# Altium integrated library BB Voltage Controlled Oscillator.IntLib: 1 symbol
Pins are listed as number, name and electrical type; pins without a type are passive.

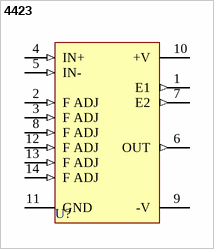
[diagram p0: symbol 4423]

## 4423
designator U?
Precision Quadrature Oscillator; Published: 8-Jun-2000; LatestRevisionDate: 17-Jul-2002; LatestRevisionNote: Re-released for DXP Platform.; DatasheetVersion: 1989; PackageVersion: 1995; PackageReference: ZZ105; Publisher: Altium Limited; PackageDescription: DIP; 14 Round Pins; Row Space 7.62 mm; Pitch 2.54 mm; ComponentLink1Description: Manufacturer Link; ComponentLink1URL: http://www.ti.com/
footprint ZZ105 (DIP; 14 Round Pins; Row Space 7.62 mm; Pitch 2.54 mm)
pins: 1 E1 (out), 2 F ADJ (in), 3 F ADJ (in), 4 IN+ (in), 5 IN- (in), 6 OUT (out), 7 E2 (out), 8 F ADJ (in), 9 -V (power), 10 +V (power), 11 GND (power), 12 F ADJ (in), 13 F ADJ (in), 14 F ADJ (in)